# Altium footprint library AYZ0102AGRLC.PcbLib: 1 footprints
Each footprint in its own frame and in the unit in brackets; x right, y up, seen from the top. Pads: shape width x height; smd on the part's side, far side on the other; paste and mask are expansions set on the pad; w line width, h text height; cw(c..) or ccw(c..) is an arc to the next point about the centre after c.
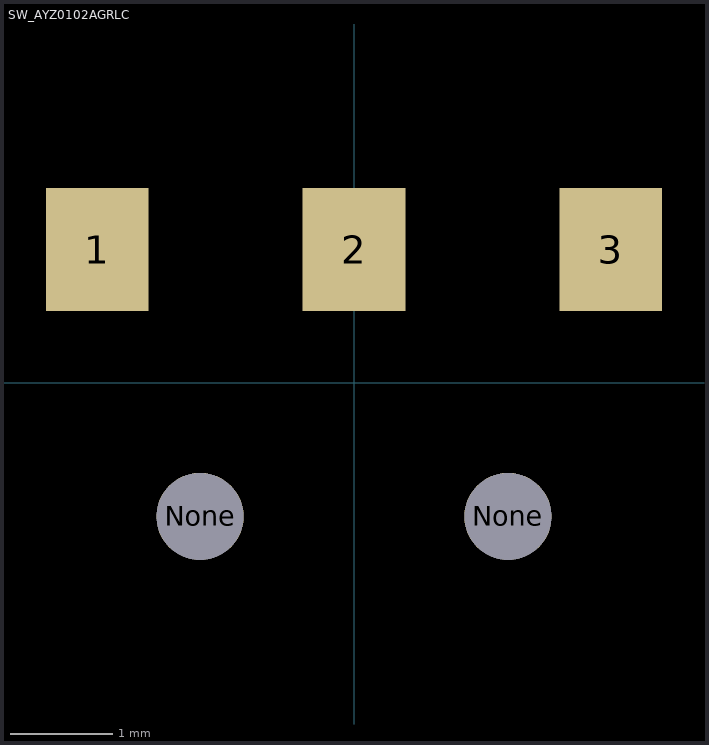
[diagram p0: the footprint, top view; thin cyan lines are the x and y axes]

## SW_AYZ0102AGRLC [mm]
pads (5):
  rect 1x1.2 smd: 1(-2.5,1.3) 2(0,1.3) 3(2.5,1.3)
  round 0.85 hole 0.85 unplated: None(-1.5,-1.3) None(1.5,-1.3)